# Altium integrated library Analog Devices Data Converters Analog-to-Digital Converters.IntLib: 2400 symbols (part 27 of 338)
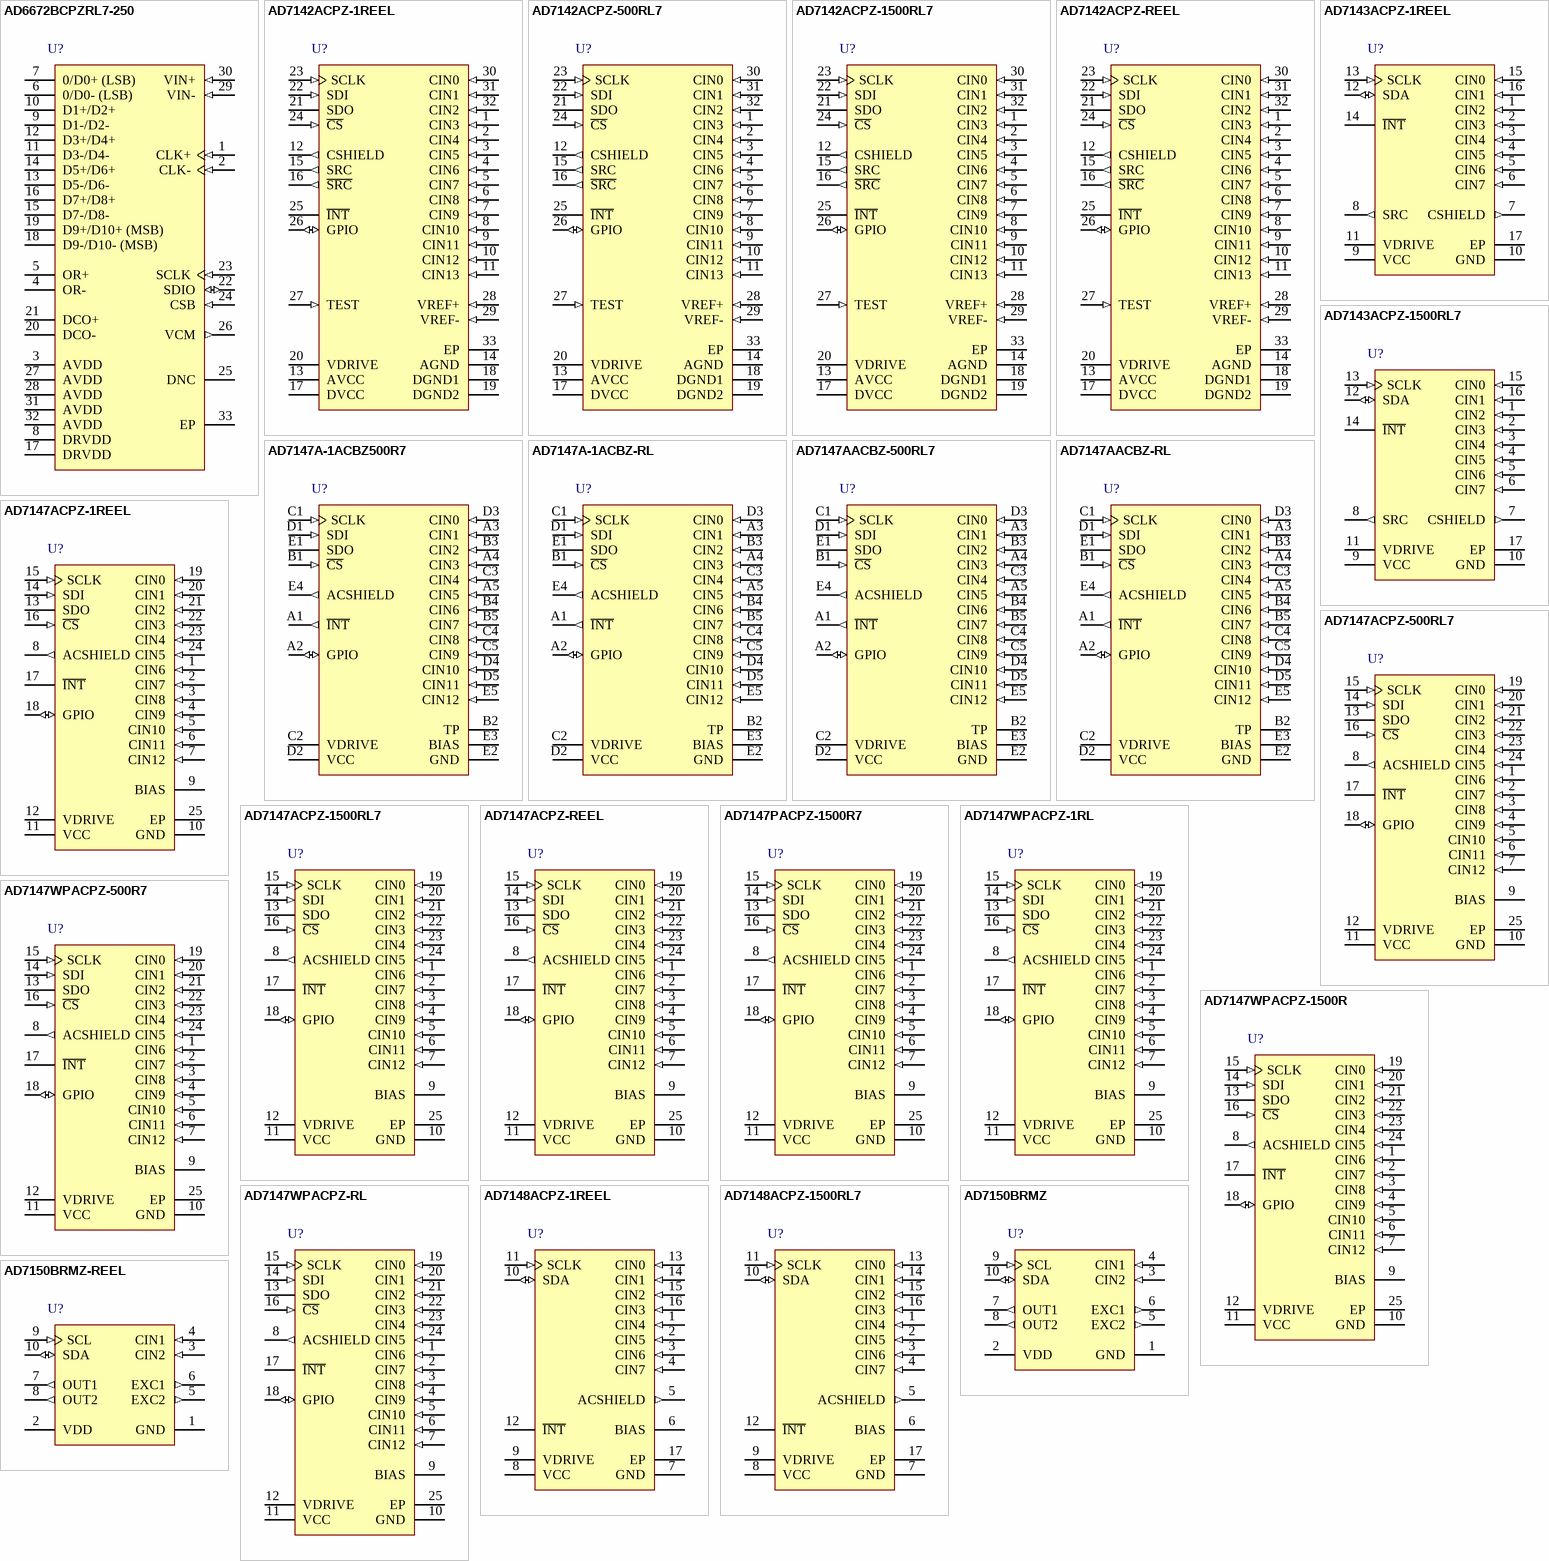
[diagram p170: symbols AD6672BCPZRL7-250 to AD7150BRMZ-REEL]

## AD7143ACPZ-1REEL
designator U?
Programmable Controller for Capacitance Touch Sensors with I2C/Ser 2-Wire, Serial Interface, 43.5SPS, -40 to +85 degC, CP-16-13, Pb-Free, Reel; Part Number: AD7143; Manufacturer: Analog Devices; Resolution (Bits): 16; Channels: 8; Throughput Rate (SPS): 43.5; DatasheetVersion: Rev.0; PackageVersion: 031006-A; PackageReference: CP-16-13; PackageDescription: 16-Lead Lead Frame Chip Scale Package [LFCSP_VQ] 4 x 4 mm Body, Very Thin Quad; Interface: I2C/Ser 2-Wire, Ser; RoHS: Y; Packing: Reel; Mounting Technology: Surface Mount; Code_JEDEC: MO-220-VGGC; ComponentLink1Description: Manufacturer URL; ComponentLink1URL: http://www.analog.com/en/index.html; ComponentLink2Description: Datasheet; ComponentLink2URL: http://www.analog.com/static/imported-files/data_sheets/AD7143.pdf; ComponentLink3Description: Package Specification; ComponentLink3URL: http://www.analog.com/static/imported-files/packages/PKG_PDF/LFCSP(CP)/CP-16/CP_16_13.pdf; ComponentLink4Description: Product URL; ComponentLink4URL: http://www.analog.com/en/analog-to-digital-converters/ad-converters/ad7143/products/product.html
footprint CP-16-13_N (QFN, 16-Leads, Body 4x4mm, Pitch 0.65mm, Thermal Pad 2.5x2.5mm, IPC Medium Density)
footprint CP-16-13_L (QFN, 16-Leads, Body 4x4mm, Pitch 0.65mm, Thermal Pad 2.5x2.5mm, IPC High Density)
footprint CP-16-13_M (QFN, 16-Leads, Body 4x4mm, Pitch 0.65mm, Thermal Pad 2.5x2.5mm, IPC Low Density)
pins: 1 CIN2 (in) "Capacitance Sensor Input.", 2 CIN3 (in) "Capacitance Sensor Input.", 3 CIN4 (in) "Capacitance Sensor Input.", 4 CIN5 (in) "Capacitance Sensor Input.", 5 CIN6 (in) "Capacitance Sensor Input.", 6 CIN7 (in) "Capacitance Sensor Input.", 7 CSHIELD (out) "CDC Shield Potential Output. Requires 10 nF capacitor to ground.", 8 SRC (out) "CDC Excitation Source Output.", 9 VCC (power) "CDC Supply Voltage.", 10 GND (power) "Ground Reference Point for All CDC Circuitry. Tie to ground plane.", 11 VDRIVE (power) "I2C Serial Interface Operating Voltage", 12 SDA (io) "I2C Serial Data Input/Output. SDA requires pull-up resistor", 13 SCLK (in) "Clock Input for Serial Interface. SCLK requires pull-up resistor.", 14 ~{INT} (oc) "General-Purpose Open-Drain Interrupt Output. Programmable polarity; requires pull-up resistor.", 15 CIN0 (in) "Capacitance Sensor Input.", 16 CIN1 (in) "Capacitance Sensor Input.", 17 EP (power) "Exposed pad"

## AD7143ACPZ-1500RL7
designator U?
Programmable Controller for Capacitance Touch Sensors with I2C/Ser 2-Wire, Serial Interface, 43.5SPS, -40 to +85 degC, CP-16-13, Pb-Free, Reel; Part Number: AD7143; Manufacturer: Analog Devices; Resolution (Bits): 16; Channels: 8; Throughput Rate (SPS): 43.5; DatasheetVersion: Rev.0; PackageVersion: 031006-A; PackageReference: CP-16-13; PackageDescription: 16-Lead Lead Frame Chip Scale Package [LFCSP_VQ] 4 x 4 mm Body, Very Thin Quad; Interface: I2C/Ser 2-Wire, Ser; RoHS: Y; Packing: Reel; Mounting Technology: Surface Mount; Code_JEDEC: MO-220-VGGC; ComponentLink1Description: Manufacturer URL; ComponentLink1URL: http://www.analog.com/en/index.html; ComponentLink2Description: Datasheet; ComponentLink2URL: http://www.analog.com/static/imported-files/data_sheets/AD7143.pdf; ComponentLink3Description: Package Specification; ComponentLink3URL: http://www.analog.com/static/imported-files/packages/PKG_PDF/LFCSP(CP)/CP-16/CP_16_13.pdf; ComponentLink4Description: Product URL; ComponentLink4URL: http://www.analog.com/en/analog-to-digital-converters/ad-converters/ad7143/products/product.html
footprint CP-16-13_N (QFN, 16-Leads, Body 4x4mm, Pitch 0.65mm, Thermal Pad 2.5x2.5mm, IPC Medium Density)
footprint CP-16-13_L (QFN, 16-Leads, Body 4x4mm, Pitch 0.65mm, Thermal Pad 2.5x2.5mm, IPC High Density)
footprint CP-16-13_M (QFN, 16-Leads, Body 4x4mm, Pitch 0.65mm, Thermal Pad 2.5x2.5mm, IPC Low Density)
pins: 1 CIN2 (in) "Capacitance Sensor Input.", 2 CIN3 (in) "Capacitance Sensor Input.", 3 CIN4 (in) "Capacitance Sensor Input.", 4 CIN5 (in) "Capacitance Sensor Input.", 5 CIN6 (in) "Capacitance Sensor Input.", 6 CIN7 (in) "Capacitance Sensor Input.", 7 CSHIELD (out) "CDC Shield Potential Output. Requires 10 nF capacitor to ground.", 8 SRC (out) "CDC Excitation Source Output.", 9 VCC (power) "CDC Supply Voltage.", 10 GND (power) "Ground Reference Point for All CDC Circuitry. Tie to ground plane.", 11 VDRIVE (power) "I2C Serial Interface Operating Voltage", 12 SDA (io) "I2C Serial Data Input/Output. SDA requires pull-up resistor", 13 SCLK (in) "Clock Input for Serial Interface. SCLK requires pull-up resistor.", 14 ~{INT} (oc) "General-Purpose Open-Drain Interrupt Output. Programmable polarity; requires pull-up resistor.", 15 CIN0 (in) "Capacitance Sensor Input.", 16 CIN1 (in) "Capacitance Sensor Input.", 17 EP (power) "Exposed pad"

## AD7147A-1ACBZ500R7
designator U?
13 Channel CapTouch Programmable Controller for Single-Electrode Capacitance Sensors, 111SPS, -40 to +85 degC, CB-25-3, Pb-Free, Reel; Part Number: AD7147A; Manufacturer: Analog Devices; Resolution (Bits): 16; Channels: 13; Throughput Rate (SPS): 111; Interface: I2C/Ser 2-Wire, Ser, SPI; DatasheetVersion: Rev.B; PackageVersion: 081908-A; PackageReference: CB-25-3; PackageDescription: 25-Ball Wafer Level Chip Scale Package [WLCSP]; RoHS: Y; Packing: Reel; Mounting Technology: Surface Mount; ComponentLink1Description: Manufacturer URL; ComponentLink1URL: http://www.analog.com/en/index.html; ComponentLink2Description: Datasheet; ComponentLink2URL: http://www.analog.com/static/imported-files/data_sheets/AD7147A.pdf; ComponentLink3Description: Package Specification; ComponentLink3URL: http://www.analog.com/static/imported-files/packages/PKG_PDF/WLCSP(CB)/CB_25_3.pdf; ComponentLink4Description: Product URL; ComponentLink4URL: http://www.analog.com/en/analog-to-digital-converters/ad-converters/ad7147a/products/product.html
footprint CB-25-3 (BGA, 25-Leads, Body 2.05x2.25mm, Pitch 0.4mm)
pins: A1 ~{INT} (out) "General-Purpose Open-Drain Interrupt Output. Programmable polarity; requires pull-up resistor.", A2 GPIO (io) "Programmable General-Purpose Input/Output.", A3 CIN1 (in) "Capacitance Sensor Input.", A4 CIN3 (in) "Capacitance Sensor Input.", A5 CIN5 (in) "Capacitance Sensor Input.", B1 ~{CS} (in) "SPI Chip Select Signal.", B2 TP (power) "Factory Test Point Only. Tie to ground.", B3 CIN2 (in) "Capacitance Sensor Input.", B4 CIN6 (in) "Capacitance Sensor Input.", B5 CIN7 (in) "Capacitance Sensor Input.", C1 SCLK (in) "Clock Input for Serial Interface.", C2 VDRIVE (power) "Serial Interface Operating Voltage Supply.", C3 CIN4 (in) "Capacitance Sensor Input.", C4 CIN8 (in) "Capacitance Sensor Input.", C5 CIN9 (in) "Capacitance Sensor Input.", D1 SDI (in) "SPI Serial Data Input.", D2 VCC (power) "Supply Voltage.", D3 CIN0 (in) "Capacitance Sensor Input.", D4 CIN10 (in) "Capacitance Sensor Input.", D5 CIN11 (in) "Capacitance Sensor Input.", E1 SDO (hiz) "SPI Serial Data Output.", E2 GND (power) "Ground Reference Point for All Circuitry.", E3 BIAS "Bias Node for Internal Circuitry. Requires 100 nF capacitor to ground.", E4 ACSHIELD (out) "CDC Active Shield Output. Connect to external shield or plane.", E5 CIN12 (in) "Capacitance Sensor Input."

## AD7147A-1ACBZ-RL
designator U?
13 Channel CapTouch Programmable Controller for Single-Electrode Capacitance Sensors, 111SPS, -40 to +85 degC, CB-25-3, Pb-Free, Reel; Part Number: AD7147A; Manufacturer: Analog Devices; Resolution (Bits): 16; Channels: 13; Throughput Rate (SPS): 111; Interface: I2C/Ser 2-Wire, Ser, SPI; DatasheetVersion: Rev.B; PackageVersion: 081908-A; PackageReference: CB-25-3; PackageDescription: 25-Ball Wafer Level Chip Scale Package [WLCSP]; RoHS: Y; Packing: Reel; Mounting Technology: Surface Mount; ComponentLink1Description: Manufacturer URL; ComponentLink1URL: http://www.analog.com/en/index.html; ComponentLink2Description: Datasheet; ComponentLink2URL: http://www.analog.com/static/imported-files/data_sheets/AD7147A.pdf; ComponentLink3Description: Package Specification; ComponentLink3URL: http://www.analog.com/static/imported-files/packages/PKG_PDF/WLCSP(CB)/CB_25_3.pdf; ComponentLink4Description: Product URL; ComponentLink4URL: http://www.analog.com/en/analog-to-digital-converters/ad-converters/ad7147a/products/product.html
footprint CB-25-3 (BGA, 25-Leads, Body 2.05x2.25mm, Pitch 0.4mm)
pins: A1 ~{INT} (out) "General-Purpose Open-Drain Interrupt Output. Programmable polarity; requires pull-up resistor.", A2 GPIO (io) "Programmable General-Purpose Input/Output.", A3 CIN1 (in) "Capacitance Sensor Input.", A4 CIN3 (in) "Capacitance Sensor Input.", A5 CIN5 (in) "Capacitance Sensor Input.", B1 ~{CS} (in) "SPI Chip Select Signal.", B2 TP (power) "Factory Test Point Only. Tie to ground.", B3 CIN2 (in) "Capacitance Sensor Input.", B4 CIN6 (in) "Capacitance Sensor Input.", B5 CIN7 (in) "Capacitance Sensor Input.", C1 SCLK (in) "Clock Input for Serial Interface.", C2 VDRIVE (power) "Serial Interface Operating Voltage Supply.", C3 CIN4 (in) "Capacitance Sensor Input.", C4 CIN8 (in) "Capacitance Sensor Input.", C5 CIN9 (in) "Capacitance Sensor Input.", D1 SDI (in) "SPI Serial Data Input.", D2 VCC (power) "Supply Voltage.", D3 CIN0 (in) "Capacitance Sensor Input.", D4 CIN10 (in) "Capacitance Sensor Input.", D5 CIN11 (in) "Capacitance Sensor Input.", E1 SDO (hiz) "SPI Serial Data Output.", E2 GND (power) "Ground Reference Point for All Circuitry.", E3 BIAS "Bias Node for Internal Circuitry. Requires 100 nF capacitor to ground.", E4 ACSHIELD (out) "CDC Active Shield Output. Connect to external shield or plane.", E5 CIN12 (in) "Capacitance Sensor Input."

## AD7147AACBZ-500RL7
designator U?
13 Channel CapTouch Programmable Controller for Single-Electrode Capacitance Sensors, 111SPS, -40 to +85 degC, CB-25-3, Pb-Free, Reel; Part Number: AD7147A; Manufacturer: Analog Devices; Resolution (Bits): 16; Channels: 13; Throughput Rate (SPS): 111; Interface: I2C/Ser 2-Wire, Ser, SPI; DatasheetVersion: Rev.B; PackageVersion: 081908-A; PackageReference: CB-25-3; PackageDescription: 25-Ball Wafer Level Chip Scale Package [WLCSP]; RoHS: Y; Packing: Reel; Mounting Technology: Surface Mount; ComponentLink1Description: Manufacturer URL; ComponentLink1URL: http://www.analog.com/en/index.html; ComponentLink2Description: Datasheet; ComponentLink2URL: http://www.analog.com/static/imported-files/data_sheets/AD7147A.pdf; ComponentLink3Description: Package Specification; ComponentLink3URL: http://www.analog.com/static/imported-files/packages/PKG_PDF/WLCSP(CB)/CB_25_3.pdf; ComponentLink4Description: Product URL; ComponentLink4URL: http://www.analog.com/en/analog-to-digital-converters/ad-converters/ad7147a/products/product.html
footprint CB-25-3 (BGA, 25-Leads, Body 2.05x2.25mm, Pitch 0.4mm)
pins: A1 ~{INT} (out) "General-Purpose Open-Drain Interrupt Output. Programmable polarity; requires pull-up resistor.", A2 GPIO (io) "Programmable General-Purpose Input/Output.", A3 CIN1 (in) "Capacitance Sensor Input.", A4 CIN3 (in) "Capacitance Sensor Input.", A5 CIN5 (in) "Capacitance Sensor Input.", B1 ~{CS} (in) "SPI Chip Select Signal.", B2 TP (power) "Factory Test Point Only. Tie to ground.", B3 CIN2 (in) "Capacitance Sensor Input.", B4 CIN6 (in) "Capacitance Sensor Input.", B5 CIN7 (in) "Capacitance Sensor Input.", C1 SCLK (in) "Clock Input for Serial Interface.", C2 VDRIVE (power) "Serial Interface Operating Voltage Supply.", C3 CIN4 (in) "Capacitance Sensor Input.", C4 CIN8 (in) "Capacitance Sensor Input.", C5 CIN9 (in) "Capacitance Sensor Input.", D1 SDI (in) "SPI Serial Data Input.", D2 VCC (power) "Supply Voltage.", D3 CIN0 (in) "Capacitance Sensor Input.", D4 CIN10 (in) "Capacitance Sensor Input.", D5 CIN11 (in) "Capacitance Sensor Input.", E1 SDO (hiz) "SPI Serial Data Output.", E2 GND (power) "Ground Reference Point for All Circuitry.", E3 BIAS "Bias Node for Internal Circuitry. Requires 100 nF capacitor to ground.", E4 ACSHIELD (out) "CDC Active Shield Output. Connect to external shield or plane.", E5 CIN12 (in) "Capacitance Sensor Input."

## AD7147AACBZ-RL
designator U?
13 Channel CapTouch Programmable Controller for Single-Electrode Capacitance Sensors, 111SPS, -40 to +85 degC, CB-25-3, Pb-Free, Reel; Part Number: AD7147A; Manufacturer: Analog Devices; Resolution (Bits): 16; Channels: 13; Throughput Rate (SPS): 111; Interface: I2C/Ser 2-Wire, Ser, SPI; DatasheetVersion: Rev.B; PackageVersion: 081908-A; PackageReference: CB-25-3; PackageDescription: 25-Ball Wafer Level Chip Scale Package [WLCSP]; RoHS: Y; Packing: Reel; Mounting Technology: Surface Mount; ComponentLink1Description: Manufacturer URL; ComponentLink1URL: http://www.analog.com/en/index.html; ComponentLink2Description: Datasheet; ComponentLink2URL: http://www.analog.com/static/imported-files/data_sheets/AD7147A.pdf; ComponentLink3Description: Package Specification; ComponentLink3URL: http://www.analog.com/static/imported-files/packages/PKG_PDF/WLCSP(CB)/CB_25_3.pdf; ComponentLink4Description: Product URL; ComponentLink4URL: http://www.analog.com/en/analog-to-digital-converters/ad-converters/ad7147a/products/product.html
footprint CB-25-3 (BGA, 25-Leads, Body 2.05x2.25mm, Pitch 0.4mm)
pins: A1 ~{INT} (out) "General-Purpose Open-Drain Interrupt Output. Programmable polarity; requires pull-up resistor.", A2 GPIO (io) "Programmable General-Purpose Input/Output.", A3 CIN1 (in) "Capacitance Sensor Input.", A4 CIN3 (in) "Capacitance Sensor Input.", A5 CIN5 (in) "Capacitance Sensor Input.", B1 ~{CS} (in) "SPI Chip Select Signal.", B2 TP (power) "Factory Test Point Only. Tie to ground.", B3 CIN2 (in) "Capacitance Sensor Input.", B4 CIN6 (in) "Capacitance Sensor Input.", B5 CIN7 (in) "Capacitance Sensor Input.", C1 SCLK (in) "Clock Input for Serial Interface.", C2 VDRIVE (power) "Serial Interface Operating Voltage Supply.", C3 CIN4 (in) "Capacitance Sensor Input.", C4 CIN8 (in) "Capacitance Sensor Input.", C5 CIN9 (in) "Capacitance Sensor Input.", D1 SDI (in) "SPI Serial Data Input.", D2 VCC (power) "Supply Voltage.", D3 CIN0 (in) "Capacitance Sensor Input.", D4 CIN10 (in) "Capacitance Sensor Input.", D5 CIN11 (in) "Capacitance Sensor Input.", E1 SDO (hiz) "SPI Serial Data Output.", E2 GND (power) "Ground Reference Point for All Circuitry.", E3 BIAS "Bias Node for Internal Circuitry. Requires 100 nF capacitor to ground.", E4 ACSHIELD (out) "CDC Active Shield Output. Connect to external shield or plane.", E5 CIN12 (in) "Capacitance Sensor Input."

## AD7147ACPZ-1REEL
designator U?
13 Channel CapTouch Programmable Controller for Single-Electrode Capacitance Sensors, 111SPS, -40 to +85 degC, CP-24-3, Pb-Free, Reel; Part Number: AD7147; Manufacturer: Analog Devices; Resolution (Bits): 16; Channels: 13; Throughput Rate (SPS): 111; Interface: I2C/Ser 2-Wire, Ser, SPI; Automotive Qualified: Yes; DatasheetVersion: Rev.D; PackageVersion: Jan-2005; PackageReference: CP-24-3; PackageDescription: 24-Lead Lead Frame Chip Scale Package [LFCSP_VQ] 4 x 4 mm Body, Very Thin Quad; RoHS: Y; Packing: Reel; Mounting Technology: Surface Mount; Code_JEDEC: MO-220-VGGD-8; ComponentLink1Description: Manufacturer URL; ComponentLink1URL: http://www.analog.com/en/index.html; ComponentLink2Description: Datasheet; ComponentLink2URL: http://www.analog.com/static/imported-files/data_sheets/AD7147.pdf; ComponentLink3Description: Package Specification; ComponentLink3URL: http://www.analog.com/static/imported-files/packages/56702234806764CP_24_3.pdf; ComponentLink4Description: Product URL; ComponentLink4URL: http://www.analog.com/en/analog-to-digital-converters/ad-converters/ad7147/products/product.html
footprint CP-24-3_N (QFN, 24-Leads, Body 4x4mm, Pitch 0.5mm, Thermal Pad 2.5x2.5mm, IPC Medium Density)
footprint CP-24-3_L (QFN, 24-Leads, Body 4x4mm, Pitch 0.5mm, Thermal Pad 2.5x2.5mm, IPC High Density)
footprint CP-24-3_M (QFN, 24-Leads, Body 4x4mm, Pitch 0.5mm, Thermal Pad 2.5x2.5mm, IPC Low Density)
pins: 1 CIN6 (in) "Capacitance Sensor Input.", 2 CIN7 (in) "Capacitance Sensor Input.", 3 CIN8 (in) "Capacitance Sensor Input.", 4 CIN9 (in) "Capacitance Sensor Input.", 5 CIN10 (in) "Capacitance Sensor Input.", 6 CIN11 (in) "Capacitance Sensor Input.", 7 CIN12 (in) "Capacitance Sensor Input.", 8 ACSHIELD (out) "CDC Active Shield Output. Connect to external shield or plane.", 9 BIAS "Bias Node for Internal Circuitry. Requires 100 nF capacitor to ground.", 10 GND (power) "Ground Reference Point for All Circuitry.", 11 VCC (power) "Supply Voltage.", 12 VDRIVE (power) "Serial Interface Operating Voltage Supply.", 13 SDO (hiz) "SPI Serial Data Output.", 14 SDI (in) "SPI Serial Data Input.", 15 SCLK (in) "Clock Input for Serial Interface.", 16 ~{CS} (in) "SPI Chip Select Signal.", 17 ~{INT} (oc) "General-Purpose Open-Drain Interrupt Output. Programmable polarity; requires pull-up resistor.", 18 GPIO (io) "Programmable GPIO.", 19 CIN0 (in) "Capacitance Sensor Input.", 20 CIN1 (in) "Capacitance Sensor Input.", 21 CIN2 (in) "Capacitance Sensor Input.", 22 CIN3 (in) "Capacitance Sensor Input.", 23 CIN4 (in) "Capacitance Sensor Input.", 24 CIN5 (in) "Capacitance Sensor Input.", 25 EP (power) "Capacitance Sensor Input."

## AD7147ACPZ-500RL7
designator U?
13 Channel CapTouch Programmable Controller for Single-Electrode Capacitance Sensors, 111SPS, -40 to +85 degC, CP-24-3, Pb-Free, Reel; Part Number: AD7147; Manufacturer: Analog Devices; Resolution (Bits): 16; Channels: 13; Throughput Rate (SPS): 111; Interface: I2C/Ser 2-Wire, Ser, SPI; Automotive Qualified: Yes; DatasheetVersion: Rev.D; PackageVersion: Jan-2005; PackageReference: CP-24-3; PackageDescription: 24-Lead Lead Frame Chip Scale Package [LFCSP_VQ] 4 x 4 mm Body, Very Thin Quad; RoHS: Y; Packing: Reel; Mounting Technology: Surface Mount; Code_JEDEC: MO-220-VGGD-8; ComponentLink1Description: Manufacturer URL; ComponentLink1URL: http://www.analog.com/en/index.html; ComponentLink2Description: Datasheet; ComponentLink2URL: http://www.analog.com/static/imported-files/data_sheets/AD7147.pdf; ComponentLink3Description: Package Specification; ComponentLink3URL: http://www.analog.com/static/imported-files/packages/56702234806764CP_24_3.pdf; ComponentLink4Description: Product URL; ComponentLink4URL: http://www.analog.com/en/analog-to-digital-converters/ad-converters/ad7147/products/product.html
footprint CP-24-3_N (QFN, 24-Leads, Body 4x4mm, Pitch 0.5mm, Thermal Pad 2.5x2.5mm, IPC Medium Density)
footprint CP-24-3_L (QFN, 24-Leads, Body 4x4mm, Pitch 0.5mm, Thermal Pad 2.5x2.5mm, IPC High Density)
footprint CP-24-3_M (QFN, 24-Leads, Body 4x4mm, Pitch 0.5mm, Thermal Pad 2.5x2.5mm, IPC Low Density)
pins: 1 CIN6 (in) "Capacitance Sensor Input.", 2 CIN7 (in) "Capacitance Sensor Input.", 3 CIN8 (in) "Capacitance Sensor Input.", 4 CIN9 (in) "Capacitance Sensor Input.", 5 CIN10 (in) "Capacitance Sensor Input.", 6 CIN11 (in) "Capacitance Sensor Input.", 7 CIN12 (in) "Capacitance Sensor Input.", 8 ACSHIELD (out) "CDC Active Shield Output. Connect to external shield or plane.", 9 BIAS "Bias Node for Internal Circuitry. Requires 100 nF capacitor to ground.", 10 GND (power) "Ground Reference Point for All Circuitry.", 11 VCC (power) "Supply Voltage.", 12 VDRIVE (power) "Serial Interface Operating Voltage Supply.", 13 SDO (hiz) "SPI Serial Data Output.", 14 SDI (in) "SPI Serial Data Input.", 15 SCLK (in) "Clock Input for Serial Interface.", 16 ~{CS} (in) "SPI Chip Select Signal.", 17 ~{INT} (oc) "General-Purpose Open-Drain Interrupt Output. Programmable polarity; requires pull-up resistor.", 18 GPIO (io) "Programmable GPIO.", 19 CIN0 (in) "Capacitance Sensor Input.", 20 CIN1 (in) "Capacitance Sensor Input.", 21 CIN2 (in) "Capacitance Sensor Input.", 22 CIN3 (in) "Capacitance Sensor Input.", 23 CIN4 (in) "Capacitance Sensor Input.", 24 CIN5 (in) "Capacitance Sensor Input.", 25 EP (power) "Capacitance Sensor Input."

## AD7147ACPZ-1500RL7
designator U?
13 Channel CapTouch Programmable Controller for Single-Electrode Capacitance Sensors, 111SPS, -40 to +85 degC, CP-24-3, Pb-Free, Reel; Part Number: AD7147; Manufacturer: Analog Devices; Resolution (Bits): 16; Channels: 13; Throughput Rate (SPS): 111; Interface: I2C/Ser 2-Wire, Ser, SPI; Automotive Qualified: Yes; DatasheetVersion: Rev.D; PackageVersion: Jan-2005; PackageReference: CP-24-3; PackageDescription: 24-Lead Lead Frame Chip Scale Package [LFCSP_VQ] 4 x 4 mm Body, Very Thin Quad; RoHS: Y; Packing: Reel; Mounting Technology: Surface Mount; Code_JEDEC: MO-220-VGGD-8; ComponentLink1Description: Manufacturer URL; ComponentLink1URL: http://www.analog.com/en/index.html; ComponentLink2Description: Datasheet; ComponentLink2URL: http://www.analog.com/static/imported-files/data_sheets/AD7147.pdf; ComponentLink3Description: Package Specification; ComponentLink3URL: http://www.analog.com/static/imported-files/packages/56702234806764CP_24_3.pdf; ComponentLink4Description: Product URL; ComponentLink4URL: http://www.analog.com/en/analog-to-digital-converters/ad-converters/ad7147/products/product.html
footprint CP-24-3_N (QFN, 24-Leads, Body 4x4mm, Pitch 0.5mm, Thermal Pad 2.5x2.5mm, IPC Medium Density)
footprint CP-24-3_L (QFN, 24-Leads, Body 4x4mm, Pitch 0.5mm, Thermal Pad 2.5x2.5mm, IPC High Density)
footprint CP-24-3_M (QFN, 24-Leads, Body 4x4mm, Pitch 0.5mm, Thermal Pad 2.5x2.5mm, IPC Low Density)
pins: 1 CIN6 (in) "Capacitance Sensor Input.", 2 CIN7 (in) "Capacitance Sensor Input.", 3 CIN8 (in) "Capacitance Sensor Input.", 4 CIN9 (in) "Capacitance Sensor Input.", 5 CIN10 (in) "Capacitance Sensor Input.", 6 CIN11 (in) "Capacitance Sensor Input.", 7 CIN12 (in) "Capacitance Sensor Input.", 8 ACSHIELD (out) "CDC Active Shield Output. Connect to external shield or plane.", 9 BIAS "Bias Node for Internal Circuitry. Requires 100 nF capacitor to ground.", 10 GND (power) "Ground Reference Point for All Circuitry.", 11 VCC (power) "Supply Voltage.", 12 VDRIVE (power) "Serial Interface Operating Voltage Supply.", 13 SDO (hiz) "SPI Serial Data Output.", 14 SDI (in) "SPI Serial Data Input.", 15 SCLK (in) "Clock Input for Serial Interface.", 16 ~{CS} (in) "SPI Chip Select Signal.", 17 ~{INT} (oc) "General-Purpose Open-Drain Interrupt Output. Programmable polarity; requires pull-up resistor.", 18 GPIO (io) "Programmable GPIO.", 19 CIN0 (in) "Capacitance Sensor Input.", 20 CIN1 (in) "Capacitance Sensor Input.", 21 CIN2 (in) "Capacitance Sensor Input.", 22 CIN3 (in) "Capacitance Sensor Input.", 23 CIN4 (in) "Capacitance Sensor Input.", 24 CIN5 (in) "Capacitance Sensor Input.", 25 EP (power) "Capacitance Sensor Input."

## AD7147ACPZ-REEL
designator U?
13 Channel CapTouch Programmable Controller for Single-Electrode Capacitance Sensors, 111SPS, -40 to +85 degC, CP-24-3, Pb-Free, Reel; Part Number: AD7147; Manufacturer: Analog Devices; Resolution (Bits): 16; Channels: 13; Throughput Rate (SPS): 111; Interface: I2C/Ser 2-Wire, Ser, SPI; Automotive Qualified: Yes; DatasheetVersion: Rev.D; PackageVersion: Jan-2005; PackageReference: CP-24-3; PackageDescription: 24-Lead Lead Frame Chip Scale Package [LFCSP_VQ] 4 x 4 mm Body, Very Thin Quad; RoHS: Y; Packing: Reel; Mounting Technology: Surface Mount; Code_JEDEC: MO-220-VGGD-8; ComponentLink1Description: Manufacturer URL; ComponentLink1URL: http://www.analog.com/en/index.html; ComponentLink2Description: Datasheet; ComponentLink2URL: http://www.analog.com/static/imported-files/data_sheets/AD7147.pdf; ComponentLink3Description: Package Specification; ComponentLink3URL: http://www.analog.com/static/imported-files/packages/56702234806764CP_24_3.pdf; ComponentLink4Description: Product URL; ComponentLink4URL: http://www.analog.com/en/analog-to-digital-converters/ad-converters/ad7147/products/product.html
footprint CP-24-3_N (QFN, 24-Leads, Body 4x4mm, Pitch 0.5mm, Thermal Pad 2.5x2.5mm, IPC Medium Density)
footprint CP-24-3_L (QFN, 24-Leads, Body 4x4mm, Pitch 0.5mm, Thermal Pad 2.5x2.5mm, IPC High Density)
footprint CP-24-3_M (QFN, 24-Leads, Body 4x4mm, Pitch 0.5mm, Thermal Pad 2.5x2.5mm, IPC Low Density)
pins: 1 CIN6 (in) "Capacitance Sensor Input.", 2 CIN7 (in) "Capacitance Sensor Input.", 3 CIN8 (in) "Capacitance Sensor Input.", 4 CIN9 (in) "Capacitance Sensor Input.", 5 CIN10 (in) "Capacitance Sensor Input.", 6 CIN11 (in) "Capacitance Sensor Input.", 7 CIN12 (in) "Capacitance Sensor Input.", 8 ACSHIELD (out) "CDC Active Shield Output. Connect to external shield or plane.", 9 BIAS "Bias Node for Internal Circuitry. Requires 100 nF capacitor to ground.", 10 GND (power) "Ground Reference Point for All Circuitry.", 11 VCC (power) "Supply Voltage.", 12 VDRIVE (power) "Serial Interface Operating Voltage Supply.", 13 SDO (hiz) "SPI Serial Data Output.", 14 SDI (in) "SPI Serial Data Input.", 15 SCLK (in) "Clock Input for Serial Interface.", 16 ~{CS} (in) "SPI Chip Select Signal.", 17 ~{INT} (oc) "General-Purpose Open-Drain Interrupt Output. Programmable polarity; requires pull-up resistor.", 18 GPIO (io) "Programmable GPIO.", 19 CIN0 (in) "Capacitance Sensor Input.", 20 CIN1 (in) "Capacitance Sensor Input.", 21 CIN2 (in) "Capacitance Sensor Input.", 22 CIN3 (in) "Capacitance Sensor Input.", 23 CIN4 (in) "Capacitance Sensor Input.", 24 CIN5 (in) "Capacitance Sensor Input.", 25 EP (power) "Capacitance Sensor Input."

## AD7147PACPZ-1500R7
designator U?
13 Channel CapTouch Programmable Controller for Single-Electrode Capacitance Sensors, 111SPS, -40 to +85 degC, CP-24-3, Pb-Free, Reel; Part Number: AD7147; Manufacturer: Analog Devices; Resolution (Bits): 16; Channels: 13; Throughput Rate (SPS): 111; Interface: I2C/Ser 2-Wire, Ser, SPI; Automotive Qualified: Yes; DatasheetVersion: Rev.D; PackageVersion: Jan-2005; PackageReference: CP-24-3; PackageDescription: 24-Lead Lead Frame Chip Scale Package [LFCSP_VQ] 4 x 4 mm Body, Very Thin Quad; RoHS: Y; Packing: Reel; Mounting Technology: Surface Mount; Code_JEDEC: MO-220-VGGD-8; ComponentLink1Description: Manufacturer URL; ComponentLink1URL: http://www.analog.com/en/index.html; ComponentLink2Description: Datasheet; ComponentLink2URL: http://www.analog.com/static/imported-files/data_sheets/AD7147.pdf; ComponentLink3Description: Package Specification; ComponentLink3URL: http://www.analog.com/static/imported-files/packages/56702234806764CP_24_3.pdf; ComponentLink4Description: Product URL; ComponentLink4URL: http://www.analog.com/en/analog-to-digital-converters/ad-converters/ad7147/products/product.html
footprint CP-24-3_N (QFN, 24-Leads, Body 4x4mm, Pitch 0.5mm, Thermal Pad 2.5x2.5mm, IPC Medium Density)
footprint CP-24-3_L (QFN, 24-Leads, Body 4x4mm, Pitch 0.5mm, Thermal Pad 2.5x2.5mm, IPC High Density)
footprint CP-24-3_M (QFN, 24-Leads, Body 4x4mm, Pitch 0.5mm, Thermal Pad 2.5x2.5mm, IPC Low Density)
pins: 1 CIN6 (in) "Capacitance Sensor Input.", 2 CIN7 (in) "Capacitance Sensor Input.", 3 CIN8 (in) "Capacitance Sensor Input.", 4 CIN9 (in) "Capacitance Sensor Input.", 5 CIN10 (in) "Capacitance Sensor Input.", 6 CIN11 (in) "Capacitance Sensor Input.", 7 CIN12 (in) "Capacitance Sensor Input.", 8 ACSHIELD (out) "CDC Active Shield Output. Connect to external shield or plane.", 9 BIAS "Bias Node for Internal Circuitry. Requires 100 nF capacitor to ground.", 10 GND (power) "Ground Reference Point for All Circuitry.", 11 VCC (power) "Supply Voltage.", 12 VDRIVE (power) "Serial Interface Operating Voltage Supply.", 13 SDO (hiz) "SPI Serial Data Output.", 14 SDI (in) "SPI Serial Data Input.", 15 SCLK (in) "Clock Input for Serial Interface.", 16 ~{CS} (in) "SPI Chip Select Signal.", 17 ~{INT} (oc) "General-Purpose Open-Drain Interrupt Output. Programmable polarity; requires pull-up resistor.", 18 GPIO (io) "Programmable GPIO.", 19 CIN0 (in) "Capacitance Sensor Input.", 20 CIN1 (in) "Capacitance Sensor Input.", 21 CIN2 (in) "Capacitance Sensor Input.", 22 CIN3 (in) "Capacitance Sensor Input.", 23 CIN4 (in) "Capacitance Sensor Input.", 24 CIN5 (in) "Capacitance Sensor Input.", 25 EP (power) "Capacitance Sensor Input."

## AD7147WPACPZ-1RL
designator U?
13 Channel CapTouch Programmable Controller for Single-Electrode Capacitance Sensors, 111SPS, -40 to +85 degC, CP-24-3, Pb-Free, Reel; Part Number: AD7147; Manufacturer: Analog Devices; Resolution (Bits): 16; Channels: 13; Throughput Rate (SPS): 111; Interface: I2C/Ser 2-Wire, Ser, SPI; Automotive Qualified: Yes; DatasheetVersion: Rev.D; PackageVersion: Jan-2005; PackageReference: CP-24-3; PackageDescription: 24-Lead Lead Frame Chip Scale Package [LFCSP_VQ] 4 x 4 mm Body, Very Thin Quad; RoHS: Y; Packing: Reel; Mounting Technology: Surface Mount; Code_JEDEC: MO-220-VGGD-8; ComponentLink1Description: Manufacturer URL; ComponentLink1URL: http://www.analog.com/en/index.html; ComponentLink2Description: Datasheet; ComponentLink2URL: http://www.analog.com/static/imported-files/data_sheets/AD7147.pdf; ComponentLink3Description: Package Specification; ComponentLink3URL: http://www.analog.com/static/imported-files/packages/56702234806764CP_24_3.pdf; ComponentLink4Description: Product URL; ComponentLink4URL: http://www.analog.com/en/analog-to-digital-converters/ad-converters/ad7147/products/product.html
footprint CP-24-3_N (QFN, 24-Leads, Body 4x4mm, Pitch 0.5mm, Thermal Pad 2.5x2.5mm, IPC Medium Density)
footprint CP-24-3_L (QFN, 24-Leads, Body 4x4mm, Pitch 0.5mm, Thermal Pad 2.5x2.5mm, IPC High Density)
footprint CP-24-3_M (QFN, 24-Leads, Body 4x4mm, Pitch 0.5mm, Thermal Pad 2.5x2.5mm, IPC Low Density)
pins: 1 CIN6 (in) "Capacitance Sensor Input.", 2 CIN7 (in) "Capacitance Sensor Input.", 3 CIN8 (in) "Capacitance Sensor Input.", 4 CIN9 (in) "Capacitance Sensor Input.", 5 CIN10 (in) "Capacitance Sensor Input.", 6 CIN11 (in) "Capacitance Sensor Input.", 7 CIN12 (in) "Capacitance Sensor Input.", 8 ACSHIELD (out) "CDC Active Shield Output. Connect to external shield or plane.", 9 BIAS "Bias Node for Internal Circuitry. Requires 100 nF capacitor to ground.", 10 GND (power) "Ground Reference Point for All Circuitry.", 11 VCC (power) "Supply Voltage.", 12 VDRIVE (power) "Serial Interface Operating Voltage Supply.", 13 SDO (hiz) "SPI Serial Data Output.", 14 SDI (in) "SPI Serial Data Input.", 15 SCLK (in) "Clock Input for Serial Interface.", 16 ~{CS} (in) "SPI Chip Select Signal.", 17 ~{INT} (oc) "General-Purpose Open-Drain Interrupt Output. Programmable polarity; requires pull-up resistor.", 18 GPIO (io) "Programmable GPIO.", 19 CIN0 (in) "Capacitance Sensor Input.", 20 CIN1 (in) "Capacitance Sensor Input.", 21 CIN2 (in) "Capacitance Sensor Input.", 22 CIN3 (in) "Capacitance Sensor Input.", 23 CIN4 (in) "Capacitance Sensor Input.", 24 CIN5 (in) "Capacitance Sensor Input.", 25 EP (power) "Capacitance Sensor Input."

## AD7147WPACPZ-500R7
designator U?
13 Channel CapTouch Programmable Controller for Single-Electrode Capacitance Sensors, 111SPS, -40 to +85 degC, CP-24-3, Pb-Free, Reel; Part Number: AD7147; Manufacturer: Analog Devices; Resolution (Bits): 16; Channels: 13; Throughput Rate (SPS): 111; Interface: I2C/Ser 2-Wire, Ser, SPI; Automotive Qualified: Yes; DatasheetVersion: Rev.D; PackageVersion: Jan-2005; PackageReference: CP-24-3; PackageDescription: 24-Lead Lead Frame Chip Scale Package [LFCSP_VQ] 4 x 4 mm Body, Very Thin Quad; RoHS: Y; Packing: Reel; Mounting Technology: Surface Mount; Code_JEDEC: MO-220-VGGD-8; ComponentLink1Description: Manufacturer URL; ComponentLink1URL: http://www.analog.com/en/index.html; ComponentLink2Description: Datasheet; ComponentLink2URL: http://www.analog.com/static/imported-files/data_sheets/AD7147.pdf; ComponentLink3Description: Package Specification; ComponentLink3URL: http://www.analog.com/static/imported-files/packages/56702234806764CP_24_3.pdf; ComponentLink4Description: Product URL; ComponentLink4URL: http://www.analog.com/en/analog-to-digital-converters/ad-converters/ad7147/products/product.html
footprint CP-24-3_N (QFN, 24-Leads, Body 4x4mm, Pitch 0.5mm, Thermal Pad 2.5x2.5mm, IPC Medium Density)
footprint CP-24-3_L (QFN, 24-Leads, Body 4x4mm, Pitch 0.5mm, Thermal Pad 2.5x2.5mm, IPC High Density)
footprint CP-24-3_M (QFN, 24-Leads, Body 4x4mm, Pitch 0.5mm, Thermal Pad 2.5x2.5mm, IPC Low Density)
pins: 1 CIN6 (in) "Capacitance Sensor Input.", 2 CIN7 (in) "Capacitance Sensor Input.", 3 CIN8 (in) "Capacitance Sensor Input.", 4 CIN9 (in) "Capacitance Sensor Input.", 5 CIN10 (in) "Capacitance Sensor Input.", 6 CIN11 (in) "Capacitance Sensor Input.", 7 CIN12 (in) "Capacitance Sensor Input.", 8 ACSHIELD (out) "CDC Active Shield Output. Connect to external shield or plane.", 9 BIAS "Bias Node for Internal Circuitry. Requires 100 nF capacitor to ground.", 10 GND (power) "Ground Reference Point for All Circuitry.", 11 VCC (power) "Supply Voltage.", 12 VDRIVE (power) "Serial Interface Operating Voltage Supply.", 13 SDO (hiz) "SPI Serial Data Output.", 14 SDI (in) "SPI Serial Data Input.", 15 SCLK (in) "Clock Input for Serial Interface.", 16 ~{CS} (in) "SPI Chip Select Signal.", 17 ~{INT} (oc) "General-Purpose Open-Drain Interrupt Output. Programmable polarity; requires pull-up resistor.", 18 GPIO (io) "Programmable GPIO.", 19 CIN0 (in) "Capacitance Sensor Input.", 20 CIN1 (in) "Capacitance Sensor Input.", 21 CIN2 (in) "Capacitance Sensor Input.", 22 CIN3 (in) "Capacitance Sensor Input.", 23 CIN4 (in) "Capacitance Sensor Input.", 24 CIN5 (in) "Capacitance Sensor Input.", 25 EP (power) "Capacitance Sensor Input."

## AD7147WPACPZ-1500R
designator U?
13 Channel CapTouch Programmable Controller for Single-Electrode Capacitance Sensors, 111SPS, -40 to +85 degC, CP-24-3, Pb-Free, Reel; Part Number: AD7147; Manufacturer: Analog Devices; Resolution (Bits): 16; Channels: 13; Throughput Rate (SPS): 111; Interface: I2C/Ser 2-Wire, Ser, SPI; Automotive Qualified: Yes; DatasheetVersion: Rev.D; PackageVersion: Jan-2005; PackageReference: CP-24-3; PackageDescription: 24-Lead Lead Frame Chip Scale Package [LFCSP_VQ] 4 x 4 mm Body, Very Thin Quad; RoHS: Y; Packing: Reel; Mounting Technology: Surface Mount; Code_JEDEC: MO-220-VGGD-8; ComponentLink1Description: Manufacturer URL; ComponentLink1URL: http://www.analog.com/en/index.html; ComponentLink2Description: Datasheet; ComponentLink2URL: http://www.analog.com/static/imported-files/data_sheets/AD7147.pdf; ComponentLink3Description: Package Specification; ComponentLink3URL: http://www.analog.com/static/imported-files/packages/56702234806764CP_24_3.pdf; ComponentLink4Description: Product URL; ComponentLink4URL: http://www.analog.com/en/analog-to-digital-converters/ad-converters/ad7147/products/product.html
footprint CP-24-3_N (QFN, 24-Leads, Body 4x4mm, Pitch 0.5mm, Thermal Pad 2.5x2.5mm, IPC Medium Density)
footprint CP-24-3_L (QFN, 24-Leads, Body 4x4mm, Pitch 0.5mm, Thermal Pad 2.5x2.5mm, IPC High Density)
footprint CP-24-3_M (QFN, 24-Leads, Body 4x4mm, Pitch 0.5mm, Thermal Pad 2.5x2.5mm, IPC Low Density)
pins: 1 CIN6 (in) "Capacitance Sensor Input.", 2 CIN7 (in) "Capacitance Sensor Input.", 3 CIN8 (in) "Capacitance Sensor Input.", 4 CIN9 (in) "Capacitance Sensor Input.", 5 CIN10 (in) "Capacitance Sensor Input.", 6 CIN11 (in) "Capacitance Sensor Input.", 7 CIN12 (in) "Capacitance Sensor Input.", 8 ACSHIELD (out) "CDC Active Shield Output. Connect to external shield or plane.", 9 BIAS "Bias Node for Internal Circuitry. Requires 100 nF capacitor to ground.", 10 GND (power) "Ground Reference Point for All Circuitry.", 11 VCC (power) "Supply Voltage.", 12 VDRIVE (power) "Serial Interface Operating Voltage Supply.", 13 SDO (hiz) "SPI Serial Data Output.", 14 SDI (in) "SPI Serial Data Input.", 15 SCLK (in) "Clock Input for Serial Interface.", 16 ~{CS} (in) "SPI Chip Select Signal.", 17 ~{INT} (oc) "General-Purpose Open-Drain Interrupt Output. Programmable polarity; requires pull-up resistor.", 18 GPIO (io) "Programmable GPIO.", 19 CIN0 (in) "Capacitance Sensor Input.", 20 CIN1 (in) "Capacitance Sensor Input.", 21 CIN2 (in) "Capacitance Sensor Input.", 22 CIN3 (in) "Capacitance Sensor Input.", 23 CIN4 (in) "Capacitance Sensor Input.", 24 CIN5 (in) "Capacitance Sensor Input.", 25 EP (power) "Capacitance Sensor Input."

## AD7147WPACPZ-RL
designator U?
13 Channel CapTouch Programmable Controller for Single-Electrode Capacitance Sensors, 111SPS, -40 to +85 degC, CP-24-3, Pb-Free, Reel; Part Number: AD7147; Manufacturer: Analog Devices; Resolution (Bits): 16; Channels: 13; Throughput Rate (SPS): 111; Interface: I2C/Ser 2-Wire, Ser, SPI; Automotive Qualified: Yes; DatasheetVersion: Rev.D; PackageVersion: Jan-2005; PackageReference: CP-24-3; PackageDescription: 24-Lead Lead Frame Chip Scale Package [LFCSP_VQ] 4 x 4 mm Body, Very Thin Quad; RoHS: Y; Packing: Reel; Mounting Technology: Surface Mount; Code_JEDEC: MO-220-VGGD-8; ComponentLink1Description: Manufacturer URL; ComponentLink1URL: http://www.analog.com/en/index.html; ComponentLink2Description: Datasheet; ComponentLink2URL: http://www.analog.com/static/imported-files/data_sheets/AD7147.pdf; ComponentLink3Description: Package Specification; ComponentLink3URL: http://www.analog.com/static/imported-files/packages/56702234806764CP_24_3.pdf; ComponentLink4Description: Product URL; ComponentLink4URL: http://www.analog.com/en/analog-to-digital-converters/ad-converters/ad7147/products/product.html
footprint CP-24-3_N (QFN, 24-Leads, Body 4x4mm, Pitch 0.5mm, Thermal Pad 2.5x2.5mm, IPC Medium Density)
footprint CP-24-3_L (QFN, 24-Leads, Body 4x4mm, Pitch 0.5mm, Thermal Pad 2.5x2.5mm, IPC High Density)
footprint CP-24-3_M (QFN, 24-Leads, Body 4x4mm, Pitch 0.5mm, Thermal Pad 2.5x2.5mm, IPC Low Density)
pins: 1 CIN6 (in) "Capacitance Sensor Input.", 2 CIN7 (in) "Capacitance Sensor Input.", 3 CIN8 (in) "Capacitance Sensor Input.", 4 CIN9 (in) "Capacitance Sensor Input.", 5 CIN10 (in) "Capacitance Sensor Input.", 6 CIN11 (in) "Capacitance Sensor Input.", 7 CIN12 (in) "Capacitance Sensor Input.", 8 ACSHIELD (out) "CDC Active Shield Output. Connect to external shield or plane.", 9 BIAS "Bias Node for Internal Circuitry. Requires 100 nF capacitor to ground.", 10 GND (power) "Ground Reference Point for All Circuitry.", 11 VCC (power) "Supply Voltage.", 12 VDRIVE (power) "Serial Interface Operating Voltage Supply.", 13 SDO (hiz) "SPI Serial Data Output.", 14 SDI (in) "SPI Serial Data Input.", 15 SCLK (in) "Clock Input for Serial Interface.", 16 ~{CS} (in) "SPI Chip Select Signal.", 17 ~{INT} (oc) "General-Purpose Open-Drain Interrupt Output. Programmable polarity; requires pull-up resistor.", 18 GPIO (io) "Programmable GPIO.", 19 CIN0 (in) "Capacitance Sensor Input.", 20 CIN1 (in) "Capacitance Sensor Input.", 21 CIN2 (in) "Capacitance Sensor Input.", 22 CIN3 (in) "Capacitance Sensor Input.", 23 CIN4 (in) "Capacitance Sensor Input.", 24 CIN5 (in) "Capacitance Sensor Input.", 25 EP (power) "Capacitance Sensor Input."

## AD7148ACPZ-1REEL
designator U?
Octal 16-Bit Analog-to-Digital Converter with I2C/Ser 2-Wire, Serial Interface, 250kSPS, -40 to +85 degC, CP-16-13, Pb-Free, Reel; Part Number: AD7148; Manufacturer: Analog Devices; Resolution (Bits): 16; Channels: 8; Throughput Rate (SPS): 4; DatasheetVersion: Rev.A; PackageVersion: 031006-A; PackageReference: CP-16-13; PackageDescription: 16-Lead Lead Frame Chip Scale Package [LFCSP_VQ] 4 x 4 mm Body, Very Thin Quad; Interface: I2C/Ser 2-Wire, Ser; RoHS: Y; Packing: Reel; Mounting Technology: Surface Mount; Code_JEDEC: MO-220-VGGC; ComponentLink1Description: Manufacturer URL; ComponentLink1URL: http://www.analog.com/en/index.html; ComponentLink2Description: Datasheet; ComponentLink2URL: http://www.analog.com/static/imported-files/data_sheets/AD7148.pdf; ComponentLink3Description: Package Specification; ComponentLink3URL: http://www.analog.com/static/imported-files/packages/PKG_PDF/LFCSP(CP)/CP-16/CP_16_13.pdf; ComponentLink4Description: Product URL; ComponentLink4URL: http://www.analog.com/en/analog-to-digital-converters/ad-converters/ad7148/products/product.html
footprint CP-16-13_N (QFN, 16-Leads, Body 4x4mm, Pitch 0.65mm, Thermal Pad 2.5x2.5mm, IPC Medium Density)
footprint CP-16-13_L (QFN, 16-Leads, Body 4x4mm, Pitch 0.65mm, Thermal Pad 2.5x2.5mm, IPC High Density)
footprint CP-16-13_M (QFN, 16-Leads, Body 4x4mm, Pitch 0.65mm, Thermal Pad 2.5x2.5mm, IPC Low Density)
pins: 1 CIN4 (in) "Capacitance Sensor Input.", 2 CIN5 (in) "Capacitance Sensor Input.", 3 CIN6 (in) "Capacitance Sensor Input.", 4 CIN7 (in) "Capacitance Sensor Input.", 5 ACSHIELD (out) "CDC Active Shield Output. Connect to external shield.", 6 BIAS "Bias Node for Internal Circuitry. Requires 100 nF capacitor to ground.", 7 GND (power) "Ground Reference Point for All Circuitry.", 8 VCC (power) "Supply Voltage.", 9 VDRIVE (power) "Serial Interface Operating Voltage Supply.", 10 SDA (io) "I2C Serial Data Input/Output. SDA requires pull-up resistor.", 11 SCLK (in) "Clock Input for Serial Interface.", 12 ~{INT} (oc) "General-Purpose Open-Drain Interrupt Output. Programmable polarity; requires pull-up resistor.", 13 CIN0 (in) "Capacitance Sensor Input.", 14 CIN1 (in) "Capacitance Sensor Input.", 15 CIN2 (in) "Capacitance Sensor Input.", 16 CIN3 (in) "Capacitance Sensor Input.", 17 EP (power) "The exposed pad is not connected internally. For increased reliability of the solder joint and maximum thermal capability, it is recommended that the pad be soldered to the ground plane."

## AD7148ACPZ-1500RL7
designator U?
Octal 16-Bit Analog-to-Digital Converter with I2C/Ser 2-Wire, Serial Interface, 250kSPS, -40 to +85 degC, CP-16-13, Pb-Free, Reel; Part Number: AD7148; Manufacturer: Analog Devices; Resolution (Bits): 16; Channels: 8; Throughput Rate (SPS): 4; DatasheetVersion: Rev.A; PackageVersion: 031006-A; PackageReference: CP-16-13; PackageDescription: 16-Lead Lead Frame Chip Scale Package [LFCSP_VQ] 4 x 4 mm Body, Very Thin Quad; Interface: I2C/Ser 2-Wire, Ser; RoHS: Y; Packing: Reel; Mounting Technology: Surface Mount; Code_JEDEC: MO-220-VGGC; ComponentLink1Description: Manufacturer URL; ComponentLink1URL: http://www.analog.com/en/index.html; ComponentLink2Description: Datasheet; ComponentLink2URL: http://www.analog.com/static/imported-files/data_sheets/AD7148.pdf; ComponentLink3Description: Package Specification; ComponentLink3URL: http://www.analog.com/static/imported-files/packages/PKG_PDF/LFCSP(CP)/CP-16/CP_16_13.pdf; ComponentLink4Description: Product URL; ComponentLink4URL: http://www.analog.com/en/analog-to-digital-converters/ad-converters/ad7148/products/product.html
footprint CP-16-13_N (QFN, 16-Leads, Body 4x4mm, Pitch 0.65mm, Thermal Pad 2.5x2.5mm, IPC Medium Density)
footprint CP-16-13_L (QFN, 16-Leads, Body 4x4mm, Pitch 0.65mm, Thermal Pad 2.5x2.5mm, IPC High Density)
footprint CP-16-13_M (QFN, 16-Leads, Body 4x4mm, Pitch 0.65mm, Thermal Pad 2.5x2.5mm, IPC Low Density)
pins: 1 CIN4 (in) "Capacitance Sensor Input.", 2 CIN5 (in) "Capacitance Sensor Input.", 3 CIN6 (in) "Capacitance Sensor Input.", 4 CIN7 (in) "Capacitance Sensor Input.", 5 ACSHIELD (out) "CDC Active Shield Output. Connect to external shield.", 6 BIAS "Bias Node for Internal Circuitry. Requires 100 nF capacitor to ground.", 7 GND (power) "Ground Reference Point for All Circuitry.", 8 VCC (power) "Supply Voltage.", 9 VDRIVE (power) "Serial Interface Operating Voltage Supply.", 10 SDA (io) "I2C Serial Data Input/Output. SDA requires pull-up resistor.", 11 SCLK (in) "Clock Input for Serial Interface.", 12 ~{INT} (oc) "General-Purpose Open-Drain Interrupt Output. Programmable polarity; requires pull-up resistor.", 13 CIN0 (in) "Capacitance Sensor Input.", 14 CIN1 (in) "Capacitance Sensor Input.", 15 CIN2 (in) "Capacitance Sensor Input.", 16 CIN3 (in) "Capacitance Sensor Input.", 17 EP (power) "The exposed pad is not connected internally. For increased reliability of the solder joint and maximum thermal capability, it is recommended that the pad be soldered to the ground plane."

## AD7150BRMZ
designator U?
Dual 12-Bit Low Power Analog-to-Digital Converter with I2C/Ser 2-Wire, Serial Interface, 200SPS, -40 to +85 degC, RM-10, Pb-Free, Tube; Part Number: AD7150; Manufacturer: Analog Devices; Resolution (Bits): 12; Channels: 2; Throughput Rate (SPS): 200; DatasheetVersion: Rev.0; PackageVersion: May-2005; PackageReference: RM-10; PackageDescription: 10-Lead Mini Small Outline Package [MSOP]; Interface: I2C/Ser 2-Wire, Ser; RoHS: Y; Packing: Tube; Mounting Technology: Surface Mount; ComponentLink1Description: Manufacturer URL; ComponentLink1URL: http://www.analog.com/en/index.html; ComponentLink2Description: Datasheet; ComponentLink2URL: http://www.analog.com/static/imported-files/data_sheets/AD7150.pdf; ComponentLink3Description: Package Specification; ComponentLink3URL: http://www.analog.com/static/imported-files/packages/PKG_PDF/MSOP%28RM%29/RM_10.pdf; ComponentLink4Description: Product URL; ComponentLink4URL: http://www.analog.com/en/analog-to-digital-converters/ad-converters/ad7150/products/product.html
footprint RM-10_N (TSSOP, 10-Leads, Body 3x3mm, Pitch 0.5mm, IPC Medium Density)
footprint RM-10_L (TSSOP, 10-Leads, Body 3x3mm, Pitch 0.5mm, IPC High Density)
footprint RM-10_M (TSSOP, 10-Leads, Body 3x3mm, Pitch 0.5mm, IPC Low Density)
pins: 1 GND (power) "Ground Pin.", 2 VDD (power) "Power Supply Voltage. This pin should be decoupled to GND using a low impedance capacitor, for example, 0.1uF X7R multilayer ceramic.", 3 CIN2 (in) "CDC Capacitive Input Channel 2. The measured capacitance (sensor) is connected between the EXC2 pin and the CIN2 pin. If not used, this pin can be left open circuit or connected to GND.", 4 CIN1 (in) "CDC Capacitive Input Channel 1. The measured capacitance (sensor) is connected between the EXC1 pin and the CIN1 pin. If not used, this pin can be left open circuit or connected to GND.", 5 EXC2 (out) "CDC Excitation Output Channel 2. The measured capacitance is connected between the EXC2 pin and the CIN2 pin. If not used, this pin should be left as an open circuit.", 6 EXC1 (out) "CDC Excitation Output Channel 1. The measured capacitance is connected between the EXC1 pin and the CIN1 pin. If not used, this pin should be left as an open circuit.", 7 OUT1 (out) "Logic Output Channel 1. A high level on this output indicates proximity detected on CIN1.", 8 OUT2 (out) "Logic Output Channel 2. A high level on this output indicates proximity detected on CIN2.", 9 SCL (in) "Serial Interface Clock Input. Connects to the master clock line. Requires a pull-up resistor if not provided elsewhere in the system.", 10 SDA (io) "Serial Interface Bidirectional Data. Connects to the master data line. Requires a pull-up resistor if not provided elsewhere in the system."

## AD7150BRMZ-REEL
designator U?
Dual 12-Bit Low Power Analog-to-Digital Converter with I2C/Ser 2-Wire, Serial Interface, 200SPS, -40 to +85 degC, RM-10, Pb-Free, Reel; Part Number: AD7150; Manufacturer: Analog Devices; Resolution (Bits): 12; Channels: 2; Throughput Rate (SPS): 200; DatasheetVersion: Rev.0; PackageVersion: May-2005; PackageReference: RM-10; PackageDescription: 10-Lead Mini Small Outline Package [MSOP]; Interface: I2C/Ser 2-Wire, Ser; RoHS: Y; Packing: Reel; Mounting Technology: Surface Mount; ComponentLink1Description: Manufacturer URL; ComponentLink1URL: http://www.analog.com/en/index.html; ComponentLink2Description: Datasheet; ComponentLink2URL: http://www.analog.com/static/imported-files/data_sheets/AD7150.pdf; ComponentLink3Description: Package Specification; ComponentLink3URL: http://www.analog.com/static/imported-files/packages/PKG_PDF/MSOP%28RM%29/RM_10.pdf; ComponentLink4Description: Product URL; ComponentLink4URL: http://www.analog.com/en/analog-to-digital-converters/ad-converters/ad7150/products/product.html
footprint RM-10_N (TSSOP, 10-Leads, Body 3x3mm, Pitch 0.5mm, IPC Medium Density)
footprint RM-10_L (TSSOP, 10-Leads, Body 3x3mm, Pitch 0.5mm, IPC High Density)
footprint RM-10_M (TSSOP, 10-Leads, Body 3x3mm, Pitch 0.5mm, IPC Low Density)
pins: 1 GND (power) "Ground Pin.", 2 VDD (power) "Power Supply Voltage. This pin should be decoupled to GND using a low impedance capacitor, for example, 0.1uF X7R multilayer ceramic.", 3 CIN2 (in) "CDC Capacitive Input Channel 2. The measured capacitance (sensor) is connected between the EXC2 pin and the CIN2 pin. If not used, this pin can be left open circuit or connected to GND.", 4 CIN1 (in) "CDC Capacitive Input Channel 1. The measured capacitance (sensor) is connected between the EXC1 pin and the CIN1 pin. If not used, this pin can be left open circuit or connected to GND.", 5 EXC2 (out) "CDC Excitation Output Channel 2. The measured capacitance is connected between the EXC2 pin and the CIN2 pin. If not used, this pin should be left as an open circuit.", 6 EXC1 (out) "CDC Excitation Output Channel 1. The measured capacitance is connected between the EXC1 pin and the CIN1 pin. If not used, this pin should be left as an open circuit.", 7 OUT1 (out) "Logic Output Channel 1. A high level on this output indicates proximity detected on CIN1.", 8 OUT2 (out) "Logic Output Channel 2. A high level on this output indicates proximity detected on CIN2.", 9 SCL (in) "Serial Interface Clock Input. Connects to the master clock line. Requires a pull-up resistor if not provided elsewhere in the system.", 10 SDA (io) "Serial Interface Bidirectional Data. Connects to the master data line. Requires a pull-up resistor if not provided elsewhere in the system."

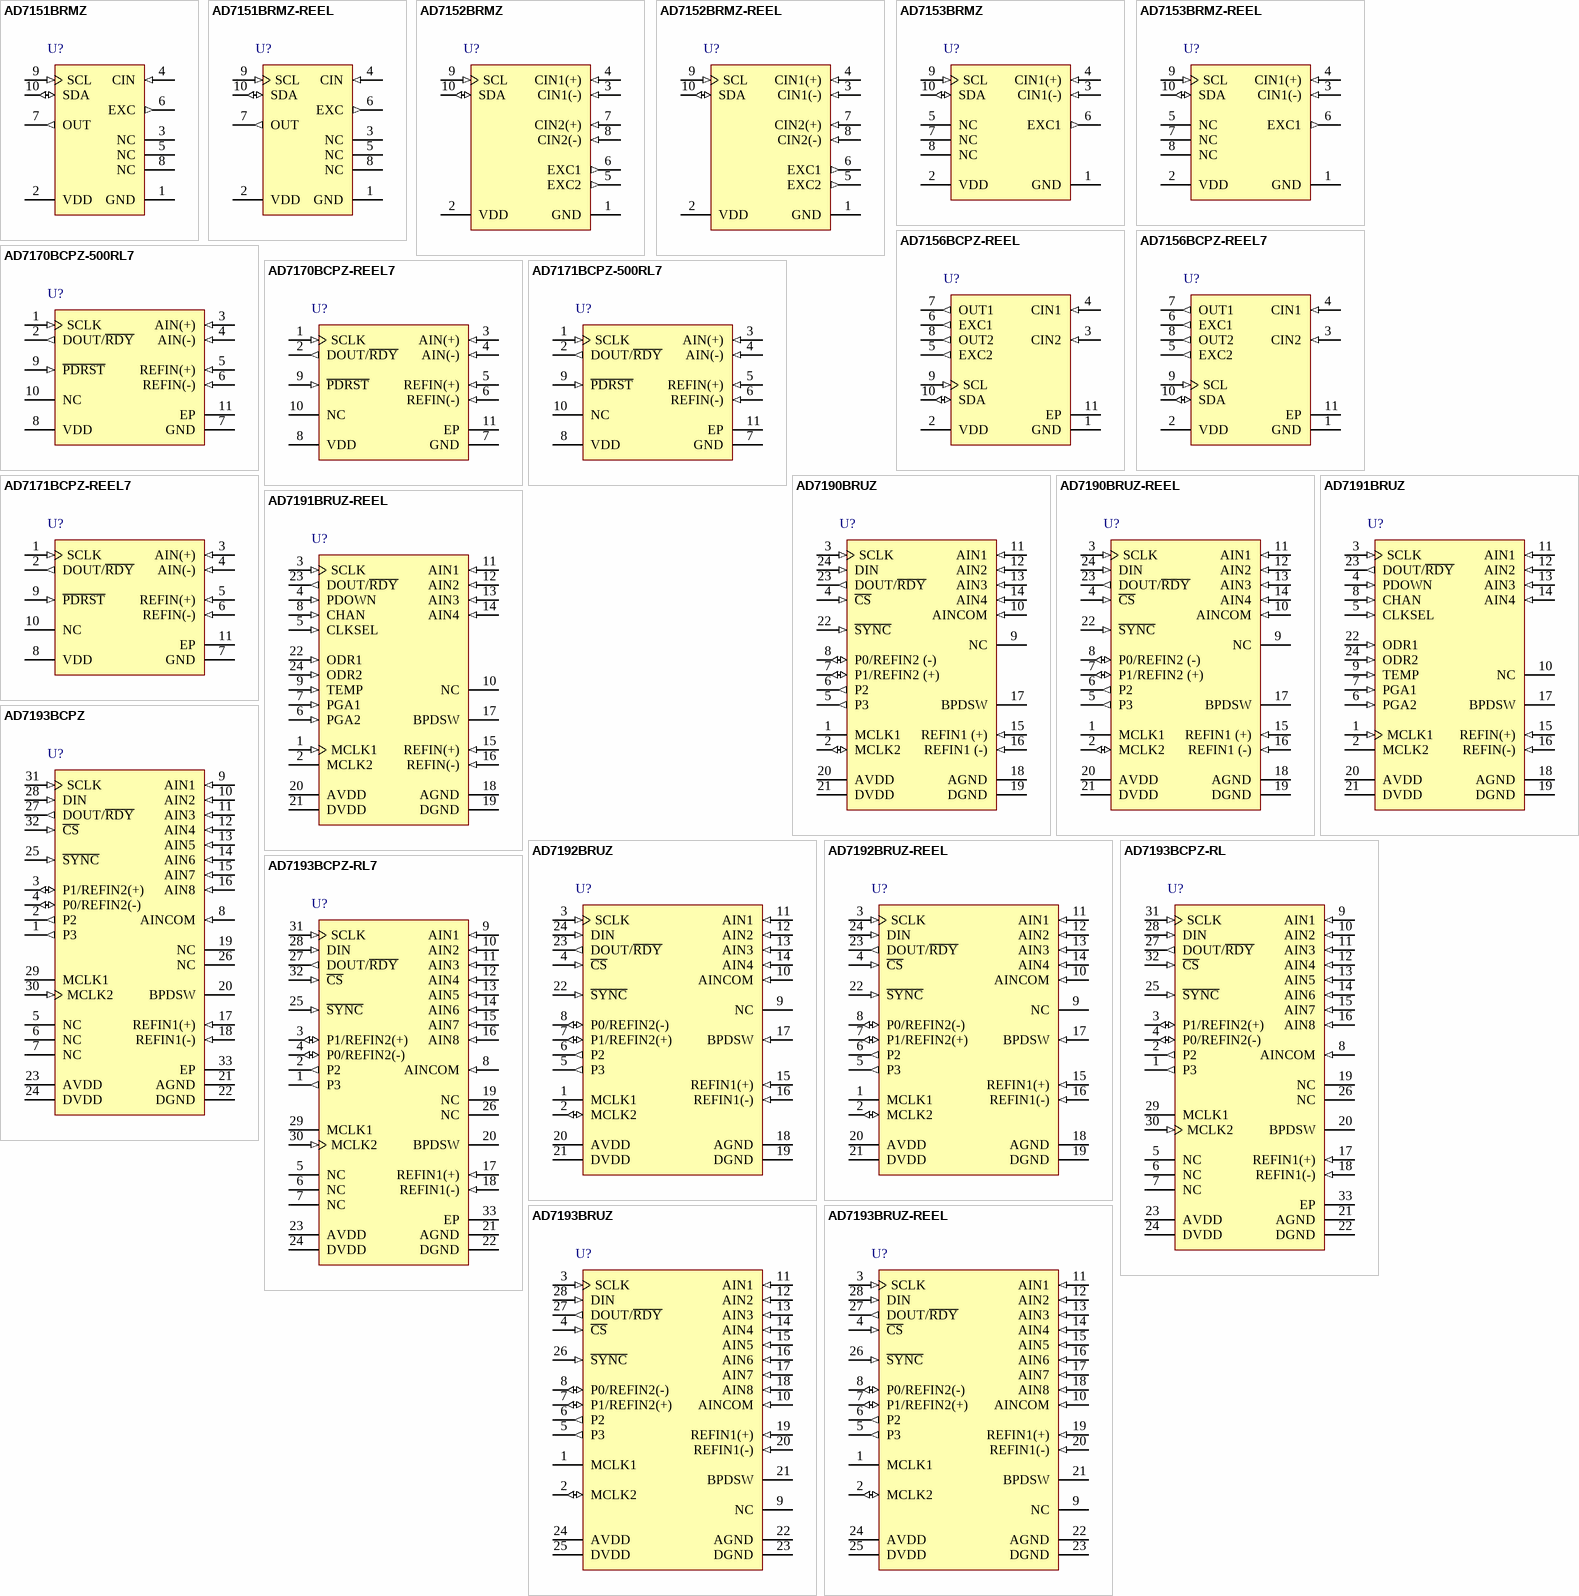
[diagram p14: symbols AD7151BRMZ to AD7193BRUZ-REEL]